# EAGLE library part LIS3MDL (library IMU)
IC MAGNETOMETER 3-AXIS 12LGA
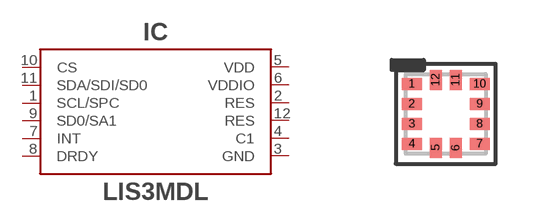
[diagram p1: symbol with the pads of VFLGA12; footprint VFLGA12]

Designator prefix IC

## LIS3MDL (DIGIKEY#: 497-13892-1-ND; MANF: STMicroelectronics; MANF#: LIS3MDLTR)  [VFLGA12]
1  SCL/SPC
2  RES
3  GND
4  C1
5  VDD
6  VDDIO
7  INT
8  DRDY
9  SD0/SA1
10  CS
11  SDA/SDI/SD0
12  RES

## Footprint VFLGA12 (pad centres in mm)
smd 0.5 x 0.3: 1 -0.85,0.75; 2 -0.85,0.25; 3 -0.85,-0.25; 4 -0.85,-0.75; 7 0.85,-0.75; 8 0.85,-0.25; 9 0.85,0.25; 10 0.85,0.75
smd 0.3 x 0.5: 5 -0.25,-0.85; 6 0.25,-0.85; 11 0.25,0.85; 12 -0.25,0.85